# Altium footprint library Connector.PcbLib: 240 footprints (part 10 of 15)
Each footprint in its own frame and in the unit in brackets; x right, y up, seen from the top. Pads: shape width x height; smd on the part's side, far side on the other; paste and mask are expansions set on the pad; w line width, h text height; cw(c..) or ccw(c..) is an arc to the next point about the centre after c.
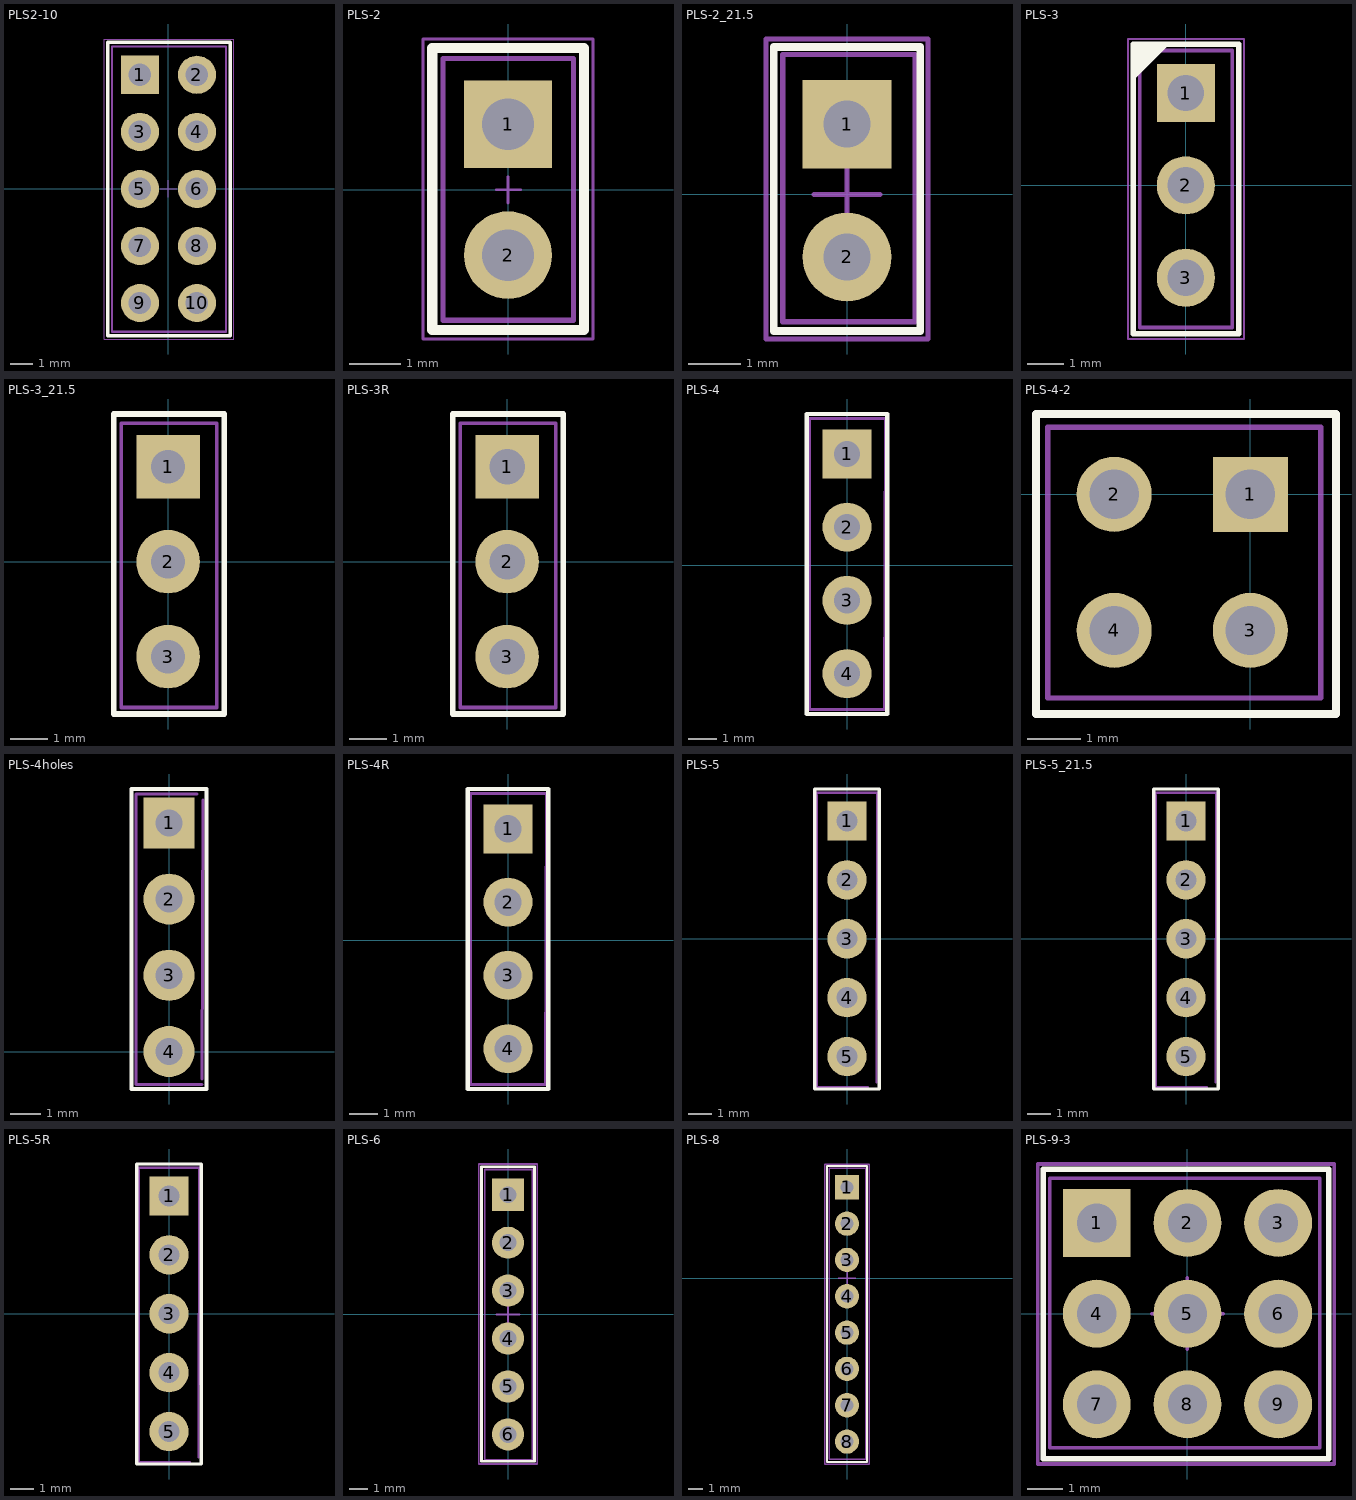
[diagram p9: the footprints below, top view; thin cyan lines are the x and y axes]

## PLS2-10 [mm]
height 0.05
pads (10):
  rect 1.7x1.7 hole 1: 1(-1.27,5.08)
  round 1.7 hole 1: 2(1.27,5.08) 3(-1.27,2.54) 4(1.27,2.54) 5(-1.27,0) 6(1.27,0) 7(-1.27,-2.54) 8(1.27,-2.54) 9(-1.27,-5.08) 10(1.27,-5.08)
Top Overlay:
  lines w0.15: -2.7,-6.535 2.75,-6.535 2.75,6.525 -2.7,6.525 -2.7,-6.535
Mechanical 13:
  lines w0.1: -2.515,-6.355 2.565,-6.355 2.565,6.345 -2.515,6.345 -2.515,-6.355
Mechanical 15:
  lines w0.05: -0.375,0 0.375,0 ; 0,-0.375 0,0.375 ; -2.85,-6.683 2.9,-6.683 2.9,6.675 -2.85,6.675 -2.85,-6.683
3D body "User Library-PLS-2.step": height 8.54, standoff -3, extent -2.515,-6.355 2.565,-3.815
3D body "User Library-PLS-2.step": height 8.54, standoff -3, extent -2.515,-3.815 2.565,-1.275
3D body "User Library-PLS-2.step": height 8.54, standoff -3, extent -2.515,3.805 2.565,6.345
3D body "User Library-PLS-2.step": height 8.54, standoff -3, extent -2.515,1.265 2.565,3.805
3D body "User Library-PLS-2.step": height 8.54, standoff -3, extent -2.515,-1.275 2.565,1.265

## PLS-2 [mm]
height 0.05
pads (2):
  rect 1.7x1.7 hole 1: 1(0,1.27)
  round 1.7 hole 1: 2(0,-1.27)
Top Overlay:
  lines w0.2: -1.471,-2.725 -1.471,2.748 1.475,2.748 1.475,-2.725 -1.471,-2.725
Mechanical 13:
  lines w0.1: -1.265,-2.535 1.275,-2.535 1.275,2.545 -1.265,2.545 -1.265,-2.535
Mechanical 15:
  lines w0.05: -0.225,0 0.25,0 ; 0,-0.259 0,0.253 ; -1.65,-2.9 -1.65,2.925 1.65,2.925 1.65,-2.9 -1.65,-2.9
3D body "User Library-PLS-2.step": height 8.54, standoff -3, extent -1.265,-2.535 1.275,2.545

## PLS-2_21.5 [mm]
height 0.05
pads (2):
  rect 1.7x1.7 hole 0.9: 1(0,1.345)
  round 1.7 hole 0.9: 2(0,-1.195)
Top Overlay:
  lines w0.15: -1.4,-2.615 -1.4,2.825 1.4,2.825 1.4,-2.615 -1.4,-2.615
Mechanical 9:
  text ".Designator" at -5.25,3.75 h3.5
Mechanical 10:
  text ".Comment" at -2.5,-4.75 h2
Mechanical 11:
  lines w0.1: -1.23,-2.435 -1.23,2.68 1.3,2.68 1.3,-2.435 -1.23,-2.435
Mechanical 15:
  lines w0.1: -0.625,0 0.625,0 ; 0,-0.6 0,0.6 ; -1.55,-2.765 -1.55,2.95 -1.55,2.975 1.525,2.975 1.55,2.975 1.55,-2.765 -1.55,-2.765
3D body "PLS2.STEP": height 24, standoff -3, extent -1.275,-2.465 1.265,2.615

## PLS-3 [mm] "Разъем для программатора ISP"
height 0.05
pads (3):
  rect 1.6x1.6 hole 1: 1(0,2.54)
  round 1.6 hole 1: 2(0,0) 3(0,-2.54)
Top Overlay:
  region: -1.442,3.875 -0.459,3.875 -1.442,2.892
  lines w0.15: -1.442,-4.075 1.45,-4.075 1.45,3.875 -1.442,3.875 -1.442,-4.075
Mechanical 13:
  lines w0.1: -1.265,-3.91 -1.265,3.71 1.275,3.71 1.275,-3.91 -1.265,-3.91
Mechanical 15:
  lines w0.05: -0.562,0 0.563,0 ; 0,-0.563 0,0.562 ; -1.592,-4.225 1.6,-4.225 1.6,4.025 -1.592,4.025 -1.592,-4.225
3D body "User Library-PLS-3.step": height 8.54, standoff -3, extent -1.265,-3.91 1.275,3.71

## PLS-3_21.5 [mm] "Разъем для программатора ISP"
height 0.05
pads (3):
  rect 1.7x1.7 hole 0.9: 1(0,2.54)
  round 1.7 hole 0.9: 2(0,0) 3(0,-2.54)
Top Overlay:
  lines w0.15: -1.45,-4.075 -1.45,3.95 1.5,3.95 1.5,-4.075 -1.45,-4.075
Mechanical 7:
  lines w0.1: -1.255,-3.895 -1.255,3.7 1.3,3.7 1.3,-3.9 -1.25,-3.9 -1.255,-3.895
Mechanical 10:
  text ".Comment" at -0.7,-4.1 h0.6
  text ".Designator" at -0.3,3.7 h0.8
3D body "PLS3.STEP": height 24, standoff -3, extent -1.275,-3.81 1.265,3.81

## PLS-3R [mm] "Разъем для программатора ISP"
height 0.05
pads (3):
  rect 1.7x1.7 hole 0.95: 1(0,2.54)
  round 1.7 hole 0.95: 2(0,0) 3(0,-2.54)
Top Overlay:
  lines w0.15: -1.45,-4.075 -1.45,3.95 1.5,3.95 1.5,-4.075 -1.45,-4.075
Mechanical 7:
  lines w0.1: -1.255,-3.895 -1.255,3.7 1.3,3.7 1.3,-3.9 -1.25,-3.9 -1.255,-3.895
Mechanical 10:
  text ".Comment" at -0.7,-4.1 h0.6
  text ".Designator" at -0.3,3.7 h0.8
3D body "User Library-PLS-3R gold.step": height 5.45, standoff -3, extent -1.26,-3.82 7.36,3.8

## PLS-4 [mm]
height 0.05
pads (4):
  rect 1.7x1.7 hole 0.9: 1(0,3.87)
  round 1.7 hole 0.9: 2(0,1.33) 3(0,-1.21)
  round 1.7 hole 0.9 mask+0.102: 4(0,-3.75)
Top Overlay:
  lines w0.15: -1.4,-5.15 1.4,-5.15 1.4,5.25 -1.4,5.25 -1.4,-5.15
Mechanical 7:
  lines w0.1: 1.3,5.1 -1.3,5.1 -1.3,-5 1.3,-5 1.332,5.1
Mechanical 10:
  text ".Comment" at 1.1,-0.3 h0.6
  text ".Designator" at 1.2,8.4 h0.8
3D body "Pin Header 1x4 TH Pitch 2.54mm.stp": height 9.5, standoff -3.2, extent -1.27,-5.02 1.27,5.14

## PLS-4-2 [mm]
height 0.05
pads (4):
  rect 1.4x1.4 hole 0.92: 1(0,0)
  round 1.4 hole 0.92: 2(-2.54,0) 3(0,-2.54) 4(-2.54,-2.54)
Top Overlay:
  lines w0.15: -4,-4.1 -4,1.5 1.6,1.5 1.6,-4.1 -4,-4.1
Mechanical 7:
  lines w0.1: -3.78,-3.8 -3.78,1.25 1.315,1.25 1.315,-3.8 -3.78,-3.8
Mechanical 9:
  text ".Designator" at -6.7,2.5 h3.5
Mechanical 10:
  text ".Comment" at -4.2,-5.8 h2
3D body "User Library-PLS-2.step": height 8.54, standoff -3, extent -3.78,-3.815 1.3,-1.275
3D body "User Library-PLS-2.step": height 8.54, standoff -3, extent -3.78,-1.275 1.3,1.265

## PLS-4holes [mm]
height 0.05
pads (4):
  rect 1.7x1.7 hole 0.9: 1(0,7.62)
  round 1.7 hole 0.9: 2(0,5.08) 3(0,2.54)
  round 1.7 hole 0.9 mask+0.102: 4(0,0)
Top Overlay:
  lines w0.15: -1.25,-1.25 1.25,-1.25 1.25,8.75 -1.25,8.75 -1.25,-1.25
Mechanical 7:
  lines w0.1: 0.93,8.58 -1.1,8.58 -1.1,-1.1 1.1,-1.1 ; 1.1,-0.92 1.13,8.38
Mechanical 10:
  text ".Comment" at 1.1,-0.3 h0.6
  text ".Designator" at 1.2,8.4 h0.8

## PLS-4R [mm]
height 0.05
pads (4):
  rect 1.7x1.7 hole 0.95: 1(0,3.87)
  round 1.7 hole 0.95: 2(0,1.33) 3(0,-1.21)
  round 1.7 hole 0.95 mask+0.102: 4(0,-3.75)
Top Overlay:
  lines w0.15: -1.4,-5.15 1.4,-5.15 1.4,5.25 -1.4,5.25 -1.4,-5.15
Mechanical 7:
  lines w0.1: 1.3,5.1 -1.3,5.1 -1.3,-5 1.3,-5 1.332,5.1
Mechanical 10:
  text ".Comment" at 1.1,-0.3 h0.6
  text ".Designator" at 1.2,8.4 h0.8
3D body "User Library-PLS-4R gold.step": height 5.45, standoff -3, extent -1.27,-5.02 7.35,5.14

## PLS-5 [mm]
height 0.05
pads (5):
  rect 1.7x1.7 hole 0.9: 1(0,5.08)
  round 1.7 hole 0.9: 2(0,2.54) 3(0,0)
  round 1.7 hole 0.9 mask+0.102: 4(0,-2.54) 5(0,-5.08)
Top Overlay:
  lines w0.15: -1.4,-6.48 -1.4,6.46 1.4,6.46 1.4,-6.48 -1.4,-6.48
Mechanical 7:
  lines w0.1: -1.3,6.2 -1.3,-6.4 0.9,-6.4 ; -1.3,6.3 1.3,6.3 1.27,-6.2
Mechanical 10:
  text ".Comment" at 1.1,-0.3 h0.6
  text ".Designator" at 1.2,8.4 h0.8
3D body "User Library-PLS-5.step": height 8.54, standoff -3, extent -1.265,-6.35 1.275,6.35

## PLS-5_21.5 [mm]
height 0.05
pads (5):
  rect 1.7x1.7 hole 0.9: 1(0,5.08)
  round 1.7 hole 0.9: 2(0,2.54) 3(0,0)
  round 1.7 hole 0.9 mask+0.102: 4(0,-2.54) 5(0,-5.08)
Top Overlay:
  lines w0.15: -1.4,-6.48 1.4,-6.48 1.4,6.46 -1.4,6.46 -1.4,-6.48
Mechanical 7:
  lines w0.1: -1.3,6.2 -1.3,-6.4 0.9,-6.4 ; -1.3,6.3 1.3,6.3 1.27,-6.2
Mechanical 10:
  text ".Designator" at 1.2,8.4 h0.8
  text ".Comment" at 1.1,-0.3 h0.6
3D body "PLS5.STEP": height 24, standoff -3, extent -1.275,-6.35 1.265,6.35

## PLS-5R [mm]
height 0.05
pads (5):
  rect 1.7x1.7 hole 0.9: 1(0,5.08)
  round 1.7 hole 0.9: 2(0,2.54) 3(0,0)
  round 1.7 hole 0.9 mask+0.102: 4(0,-2.54) 5(0,-5.08)
Top Overlay:
  lines w0.15: -1.4,-6.48 -1.4,6.46 1.4,6.46 1.4,-6.48 -1.4,-6.48
Mechanical 7:
  lines w0.1: -1.3,6.2 -1.3,-6.4 0.9,-6.4 ; -1.3,6.3 1.3,6.3 1.27,-6.2
Mechanical 10:
  text ".Comment" at 1.1,-0.3 h0.6
  text ".Designator" at 1.2,8.4 h0.8
3D body "User Library-PLS-5R gold.step": height 5.45, standoff -3, extent -1.27,-6.35 7.35,6.35

## PLS-6 [mm]
height 0.05
pads (6):
  rect 1.7x1.7 hole 0.9: 1(0,6.345)
  round 1.7 hole 0.9: 2(0,3.805) 3(0,1.265) 5(0,-3.815) 6(0,-6.355)
  round 1.7 hole 0.9 mask+0.102: 4(0,-1.275)
Top Overlay:
  lines w0.15: -1.4,-7.775 1.4,-7.775 1.4,7.825 -1.4,7.825 -1.4,-7.775
Mechanical 9:
  text ".Designator" at -5.25,8.75 h3.5
Mechanical 10:
  text ".Comment" at -2.75,-9.75 h2
Mechanical 11:
  lines w0.1: -1.23,-7.7 1.3,-7.7 1.3,7.68 -1.23,7.68 -1.23,-7.7
Mechanical 15:
  lines w0.1: -0.625,0 0.625,0 ; 0,-0.6 0,0.6 ; -1.55,-7.925 1.55,-7.925 1.55,7.975 1.525,7.975 -1.55,7.975 -1.55,7.95 -1.55,-7.925
3D body "User Library-PLS-6.step": height 8.54, standoff -3, extent -1.27,-7.585 1.27,7.655

## PLS-8 [mm]
height 0.05
pads (8):
  rect 1.7x1.7 hole 0.9: 1(0,6.345)
  round 1.7 hole 0.9: 2(0,3.805) 3(0,1.265) 5(0,-3.815) 6(0,-6.355) 7(0,-8.895) 8(0,-11.435)
  round 1.7 hole 0.9 mask+0.102: 4(0,-1.275)
Top Overlay:
  lines w0.15: -1.4,-12.855 1.4,-12.855 1.4,7.825 -1.4,7.825 -1.4,-12.855
Mechanical 9:
  text ".Designator" at -4.5,9 h3.5
Mechanical 10:
  text ".Comment" at -3,-14.75 h2
Mechanical 11:
  lines w0.1: -1.23,-12.675 1.3,-12.675 1.3,7.68 -1.23,7.68 -1.23,-12.675
Mechanical 15:
  lines w0.1: -0.625,0 0.625,0 ; 0,-0.6 0,0.6 ; -1.55,-13.005 1.55,-13.005 1.55,7.975 1.525,7.975 -1.55,7.975 -1.55,7.95 -1.55,-13.005
3D body "User Library-PLS-6.step": height 8.54, standoff -3, extent -1.27,-7.585 1.27,7.655
3D body "User Library-PLS-2.step": height 8.54, standoff -3, extent -1.265,-12.675 1.275,-7.595

## PLS-9-3 [mm]
height 0.05
pads (9):
  rect 1.9x1.9 hole 1.1: 1(-2.54,2.54)
  round 1.9 hole 1.1: 2(0,2.54) 3(2.54,2.54) 4(-2.54,0) 5(0,0) 6(2.54,0) 7(-2.54,-2.54) 8(0,-2.54) 9(2.54,-2.54)
Top Overlay:
  lines w0.15: -4.04,-4.06 3.96,-4.06 3.96,4.04 -4.04,4.04 -4.04,-4.06
Mechanical 9:
  text ".Designator" at -5.24,5.14 h3.5
Mechanical 10:
  text ".Comment" at -3.14,-5.66 h2
Mechanical 11:
  lines w0.1: -3.85,-3.76 3.71,-3.76 3.71,3.79 -3.85,3.79 -3.85,-3.76
Mechanical 15:
  lines w0.1: -1,0 1,0 ; 0,-1 0,1 ; -4.19,-4.21 4.11,-4.21 4.11,4.19 -4.19,4.19 -4.19,-4.21
3D body "User Library-PLS-3.step": height 8.54, standoff -3, extent -3.85,-3.79 3.77,-1.25
3D body "User Library-PLS-3.step": height 8.54, standoff -3, extent -3.85,-1.25 3.77,1.29
3D body "User Library-PLS-3.step": height 8.54, standoff -3, extent -3.85,1.29 3.77,3.83